# Altium footprint library IC.PcbLib: 1 footprints
Each footprint in its own frame and in the unit in brackets; x right, y up, seen from the top. Pads: shape width x height; smd on the part's side, far side on the other; paste and mask are expansions set on the pad; w line width, h text height; cw(c..) or ccw(c..) is an arc to the next point about the centre after c.
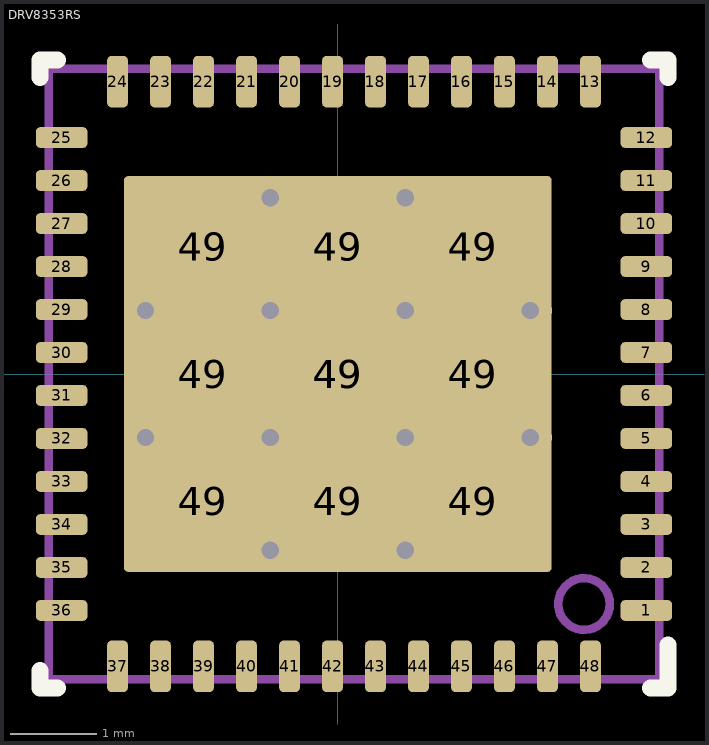
[diagram p0: the footprint, top view; thin cyan lines are the x and y axes]

## DRV8353RS [mm]
pads (58):
  rrect42% 0.6x0.24 smd: 1(3.588,-2.75) 2(3.588,-2.25) 3(3.588,-1.75) 4(3.588,-1.25) 5(3.588,-0.75) 6(3.588,-0.25) 7(3.588,0.25) 8(3.588,0.75) 9(3.588,1.25) 10(3.588,1.75) 11(3.588,2.25) 12(3.588,2.75) 25(-3.212,2.75) 26(-3.212,2.25) 27(-3.212,1.75) 28(-3.212,1.25) 29(-3.212,0.75) 30(-3.212,0.25) 31(-3.212,-0.25) 32(-3.212,-0.75) 33(-3.212,-1.25) 34(-3.212,-1.75) 35(-3.212,-2.25) 36(-3.212,-2.75)
  rrect42% 0.24x0.6 smd: 13(2.938,3.4) 14(2.438,3.4) 15(1.938,3.4) 16(1.438,3.4) 17(0.938,3.4) 18(0.438,3.4) 19(-0.062,3.4) 20(-0.562,3.4) 21(-1.062,3.4) 22(-1.562,3.4) 23(-2.062,3.4) 24(-2.562,3.4) 37(-2.562,-3.4) 38(-2.062,-3.4) 39(-1.562,-3.4) 40(-1.062,-3.4) 41(-0.562,-3.4) 42(-0.062,-3.4) 43(0.438,-3.4) 44(0.938,-3.4) 45(1.438,-3.4) 46(1.938,-3.4) 47(2.438,-3.4) 48(2.938,-3.4)
  rrect8% 1.37x1.28 on Top Paste: 49(-1.57,-1.48) 49(-1.57,0) 49(-1.57,1.48) 49(0,-1.48) 49(0,0) 49(0,1.48) 49(1.57,-1.48) 49(1.57,0) 49(1.57,1.48)
  rrect2% 4.975x4.6 smd paste-2.575: 49(0,0)
via 2.238,-0.74 diameter 0.5 hole 0.2
via 2.238,0.74 diameter 0.5 hole 0.2
via 0.785,2.05 diameter 0.5 hole 0.2
via 0.785,0.74 diameter 0.5 hole 0.2
via 0.785,-0.74 diameter 0.5 hole 0.2
via -2.238,0.74 diameter 0.5 hole 0.2
via -2.238,-0.74 diameter 0.5 hole 0.2
via -0.785,2.05 diameter 0.5 hole 0.2
via -0.785,0.74 diameter 0.5 hole 0.2
via -0.785,-0.74 diameter 0.5 hole 0.2
via 0.785,-2.05 diameter 0.5 hole 0.2
via -0.785,-2.05 diameter 0.5 hole 0.2
Top Overlay:
  lines w0.2: -3.462,-3.45 -3.462,-3.65 -3.262,-3.65 ; -3.462,3.45 -3.462,3.65 -3.262,3.65 ; 3.638,-3.65 3.838,-3.65 3.838,-3.15 ; 3.638,3.65 3.838,3.65 3.838,3.45
Mechanical 5:
  circle w0.1: c2.863,-2.675 r0.3
  lines w0.1: -3.362,-3.55 -3.362,3.55 3.738,3.55 3.738,-3.55 -3.362,-3.55
  text ".Designator" at 2.188,0.7 h1.85
3D body "RGZ0048L.stp": height 1, standoff 0, extent -3.312,-3.5 3.688,3.5